# Altium schematic symbol library HGD_Update_20200515.SCHLIB: 20 symbols
Pins are listed as number, name and electrical type; pins without a type are passive.

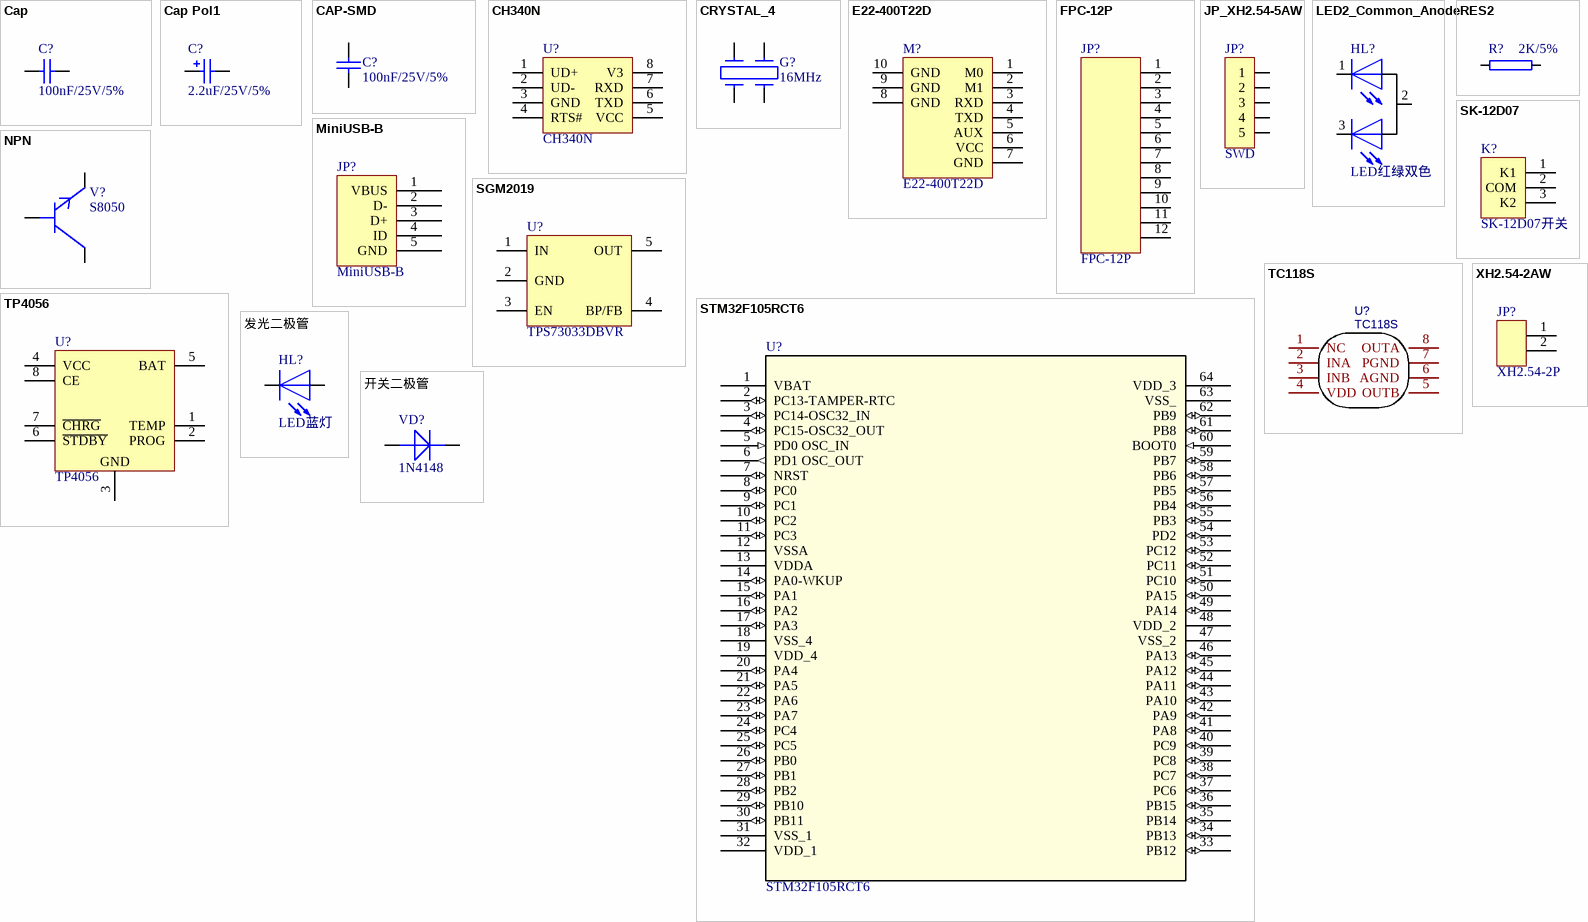
[diagram p0: symbols Cap to 开关二极管]

## Cap
designator C?, comment 100nF/25V/5%
电容; Published: 8-Jun-2000; LatestRevisionDate: 17-Jul-2002; LatestRevisionNote: Re-released for DXP Platform.; PackageReference: RAD-0.3; Publisher: Altium Limited; Value: 100nF/25V/5%
footprint RAD-0.3 (Radial Cap, Thru-Hole; 2 Leads; 0.3 in Pin Spacing)
footprint CAPR2.54-5.1x3.2 (Capacitor, Ceramic, Thru-Hole, Dipped Radial; Body 5.1 x 3.2 mm (WxT) Pin Spacing 2.54 mm (typ))
footprint CAPR5.08-7.8x3.2 (Capacitor, Ceramic, Thru-Hole, Dipped Radial; Body 7.8 x 3.2 mm (WxT) Pin Spacing 5.08 mm (typ))
simulation model CAP (Capacitor)
signal-integrity model Cap
footprint C0603
pins: 1, 2

## Cap Pol1
designator C?, comment 2.2uF/25V/5%
钽电容; Value: 10uF/25V/5%; Published: 8-Jun-2000; LatestRevisionDate: 17-Jul-2002; LatestRevisionNote: Re-released for DXP Platform.; PackageReference: RB7.6-15; Publisher: Altium Limited
footprint RB7.6-15 (Polarized Capacitor (Radial); 2 Leads)
footprint CAPPR1.27-1.7x2.8 (Capacitor, Radial, Tantalum; Body 1.7 x 2.8 mm (Dia.xH max); Pin Spacing 1.27 mm (typ))
footprint CAPPR1.5-4x5 (Capacitor, Electrolytic, Radial; Body 4 x 5 mm (Dia.xH typ); Pin Spacing 1.5 mm (typ))
footprint CAPPR2-5x6.8 (Capacitor, Electrolytic, Radial; Body 5 x 6.8 mm (Dia.xH typ); Pin Spacing 2 mm (typ))
footprint CAPPR5-5x5 (Capacitor, Electrolytic, Radial; Body 5 x 5 mm (Dia.xH typ); Pin Spacing 5 mm (typ))
footprint CAPPR7.5-16x35 (Capacitor, Electrolytic, Radial; Body 16 x 35 mm (Dia.xH typ); Pin Spacing 7.5 mm (typ))
simulation model CAP (Capacitor)
signal-integrity model Cap Pol
footprint RB2.5/6.3MM
footprint C1206-1
pins: 1, 2
1 alternate drawing of the same symbol

## CAP-SMD
designator C?, comment 100nF/25V/5%
电容
footprint C0603
pins: 1, 2
2 alternate drawings of the same symbol

## CH340N
designator U?
footprint CH340N_SOP8
pins: 1 UD+, 2 UD-, 3 GND, 4 RTS#, 5 VCC, 6 TXD, 7 RXD, 8 V3

## CRYSTAL_4
designator G?, comment 16MHz
两对电极压电晶体
footprint OSC5032
pins: 1, 2, 3, 4

## E22-400T22D
designator M?
E22-400T22D LoRa模块
footprint E22-400T22D
pins: 1 M0, 2 M1, 3 RXD, 4 TXD, 5 AUX, 6 VCC, 7 GND, 8 GND, 9 GND, 10 GND

## FPC-12P
designator JP?
footprint FPC-1.0MM-12P-W (FPC-1.0MM-12P-W：卧式，抽拉式上接，12P)
pins: 1, 2, 3, 4, 5, 6, 7, 8, 9, 10, 11, 12

## JP_XH2.54-5AW
designator JP?, comment SWD
XH2.54-5P直插插针
footprint XH2.54-5AW (XH2.54-5P弯针插座)
pins: 1, 2, 3, 4, 5

## LED2_Common_Anode
designator HL?, comment LED红绿双色
LED2_Common_Anode：双色LED，共阳极
footprint LED2_Common_Anode (LED2_Common_Anode：双色3mm共阳极LED)
pins: 1 K1, 2 A, 3 K2

## MiniUSB-B
designator JP?
MiniUSB-B母头插座
footprint MiniUSB-B
pins: 1 VBUS, 2 D-, 3 D+, 4 ID, 5 GND

## NPN
designator V?, comment S8050
NPN三极管
footprint SOT-23
footprint TO-92L
pins: B, C, E

## RES2
designator R?, comment 2K/5%
电阻
footprint 0805
footprint 0603
footprint AXIAL0.3
footprint R0603
pins: 1, 2

## SGM2019
designator U?, comment TPS73033DBVR
SGM2019：Low Power, Low Dropout, RF Linear Regulators
footprint SGM2019_SC70-5_65P230X110-5N (SOT23, 5-Leads, Body 2.2x2.5mm (max), Pitch 0.65mm, IPC Medium Density)
footprint SGM2019_SOT23-5_95P280X125-5N (SOT23, 5-Leads, Body 3.0x3.0mm (max), Pitch 0.95mm, IPC Medium Density)
pins: 1 IN, 2 GND, 3 EN, 4 BP/FB, 5 OUT

## SK-12D07
designator K?, comment SK-12D07开关
SK-12D07：3脚2档小型拨动开关
footprint SK-12D07 (3脚2档小型拨动开关)
pins: 1 K1, 2 COM, 3 K2

## STM32F105RCT6
designator U?
footprint LQFP64_STM32F105R
pins: 1 VBAT (power), 2 PC13-TAMPER-RTC (io), 3 PC14-OSC32_IN (io), 4 PC15-OSC32_OUT (io), 5 PD0 OSC_IN (in), 6 PD1 OSC_OUT (out), 7 NRST (io), 8 PC0 (io), 9 PC1 (io), 10 PC2 (io), 11 PC3 (io), 12 VSSA (power), 13 VDDA (power), 14 PA0-WKUP (io), 15 PA1 (io), 16 PA2 (io), 17 PA3 (io), 18 VSS_4 (power), 19 VDD_4 (power), 20 PA4 (io), 21 PA5 (io), 22 PA6 (io), 23 PA7 (io), 24 PC4 (io), 25 PC5 (io), 26 PB0 (io), 27 PB1 (io), 28 PB2 (io), 29 PB10 (io), 30 PB11 (io), 31 VSS_1 (power), 32 VDD_1 (power), 33 PB12 (io), 34 PB13 (io), 35 PB14 (io), 36 PB15 (io), 37 PC6 (io), 38 PC7 (io), 39 PC8 (io), 40 PC9 (io), 41 PA8 (io), 42 PA9 (io), 43 PA10 (io), 44 PA11 (io), 45 PA12 (io), 46 PA13 (io), 47 VSS_2 (power), 48 VDD_2 (power), 49 PA14 (io), 50 PA15 (io), 51 PC10 (io), 52 PC11 (io), 53 PC12 (io), 54 PD2 (io), 55 PB3 (io), 56 PB4 (io), 57 PB5 (io), 58 PB6 (io), 59 PB7 (io), 60 BOOT0 (in), 61 PB8 (io), 62 PB9 (io), 63 VSS_ (power), 64 VDD_3 (power)

## TC118S
designator U?
BOM_Manufacturer: FM; BOM_Supplier: LCSC; BOM_Manufacturer Part: TC118S; BOM_Supplier Part: C88308; BOM_JLCPCB Part Class: Extended Part; spicePre: U; spiceSymbolName: TC118S
footprint SOP-8_L4.9-W3.9-P1.27-LS6.0-BL
pins: 1 NC, 2 INA, 3 INB, 4 VDD, 5 OUTB, 6 AGND, 7 PGND, 8 OUTA

## TP4056
designator U?
footprint TP4056_SOP8_SOP127P600X175-8N (SOP, 8-Leads, Body 5.1x4.0mm (max), Pitch 1.27mm, IPC Medium Density)
pins: 1 TEMP, 2 PROG, 3 GND, 4 VCC, 5 BAT, 6 ~{STDBY}, 7 ~{CHRG}, 8 CE

## XH2.54-2AW
designator JP?, comment XH2.54-2P
XH2.54-2P弯针插座
footprint XH2.54-2AW
pins: 1, 2

## 发光二极管
designator HL?, comment LED蓝灯
发光二极管
footprint LED0805 (LED0805封装)
footprint LED0603
pins: A, K

## 开关二极管
designator VD?, comment 1N4148
开关二极管
footprint D1206-1 (开关二极管D1206封装)
footprint LL-34 (开关二极管LL-34封装)
pins: A, K